# EAGLE library part DRV8424PRGER (library pimoroni-ics)
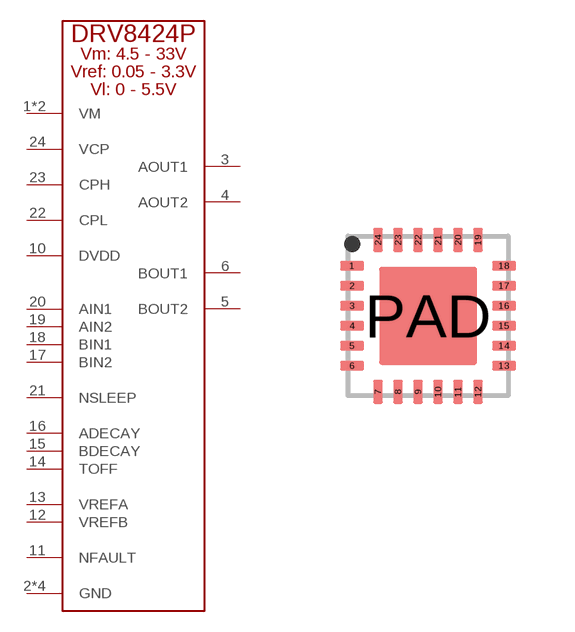
[diagram p151: symbol with the pads of WQFN24-4X4MM; footprint WQFN24-4X4MM]

Designator prefix U

## DRV8424PRGER  [WQFN24-4X4MM]
1  VM
2  GND
3  AOUT1
4  AOUT2
5  BOUT2
6  BOUT1
7  GND
8  VM
9  GND
10  DVDD
11  NFAULT
12  VREFB
13  VREFA
14  TOFF
15  BDECAY
16  ADECAY
17  BIN2
18  BIN1
19  AIN2
20  AIN1
21  NSLEEP
22  CPL
23  CPH
24  VCP
PAD  GND

## Footprint WQFN24-4X4MM (pad centres in mm)
smd 0.6 x 0.24: 1 -1.9,1.25; 2 -1.9,0.75; 3 -1.9,0.25; 4 -1.9,-0.25; 5 -1.9,-0.75; 6 -1.9,-1.25; 13 1.9,-1.25; 14 1.9,-0.75; 15 1.9,-0.25; 16 1.9,0.25; 17 1.9,0.75; 18 1.9,1.25
smd 0.24 x 0.6: 7 -1.25,-1.9; 8 -0.75,-1.9; 9 -0.25,-1.9; 10 0.25,-1.9; 11 0.75,-1.9; 12 1.25,-1.9; 19 1.25,1.9; 20 0.75,1.9; 21 0.25,1.9; 22 -0.25,1.9; 23 -0.75,1.9; 24 -1.25,1.9
smd 2.45 x 2.45: PAD 0,0